# Altium footprint library Components - 08.03.25 - 21.51.PcbLib: 1 footprints
Each footprint in its own frame and in the unit in brackets; x right, y up, seen from the top. Pads: shape width x height; smd on the part's side, far side on the other; paste and mask are expansions set on the pad; w line width, h text height; cw(c..) or ccw(c..) is an arc to the next point about the centre after c.
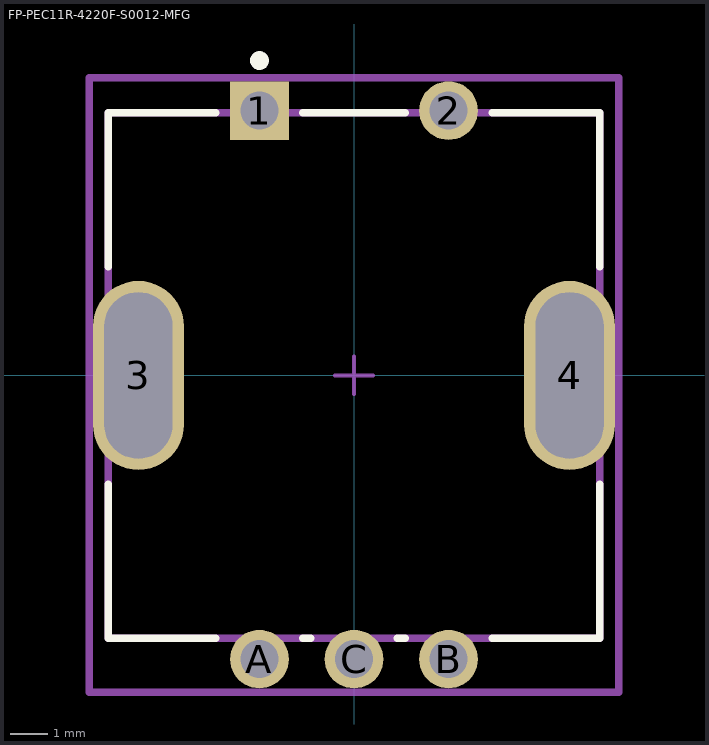
[diagram p0: the footprint, top view; thin cyan lines are the x and y axes]

## FP-PEC11R-4220F-S0012-MFG [mm]
pads (7):
  rect 1.55x1.55 hole 1 paste-2539.97 mask+0: 1(-2.5,7)
  round 1.55 hole 1 paste-2539.97 mask+0: 2(2.5,7) A(-2.5,-7.5) B(2.5,-7.5) C(0,-7.5)
  rrect100% 2.4x5 hole 4.4 slot 1.8 at 0 deg paste-2539.97 mask+0: 3(-5.7,0) 4(5.7,0)
Top Overlay:
  circle w0.25: c-2.5,8.325 r0.125
  lines w0.2: -6.5,-2.875 -6.5,-6.95 -3.65,-6.95 ; -6.5,2.875 -6.5,6.95 -3.65,6.95 ; -1.35,-6.95 -1.15,-6.95 ; -1.35,6.95 1.35,6.95 ; 1.15,-6.95 1.35,-6.95 ; 3.65,-6.95 6.5,-6.95 6.5,-2.875 ; 3.65,6.95 6.5,6.95 6.5,2.875
Top Assembly:
  lines w0.2: -7,-8.375 -7,7.875 7,7.875 7,-8.375 -7,-8.375
  text ".Designator" at 0,-0.062 h1
Top 3D Body:
  lines w0.2: -6.5,-6.95 -6.5,6.95 6.5,6.95 6.5,-6.95 -6.5,-6.95
Top Courtyard:
  lines w0.2: -7,-8.375 -7,7.875 7,7.875 7,-8.375 -7,-8.375
Top Component Center:
  lines w0.1: -0.5,0 0.5,0 ; 0,-0.5 0,0.5
3D body "Switch_Bourns_PEC11R-4220F-S0012_eec.STEP": height 0.25, standoff 0, extent -7,-8.375 7,7.875